# Altium footprint library 610 0xx 218 21.PcbLib: 19 footprints (part 2 of 2)
Each footprint in its own frame and in the unit in brackets; x right, y up, seen from the top. Pads: shape width x height; smd on the part's side, far side on the other; paste and mask are expansions set on the pad; w line width, h text height; cw(c..) or ccw(c..) is an arc to the next point about the centre after c.
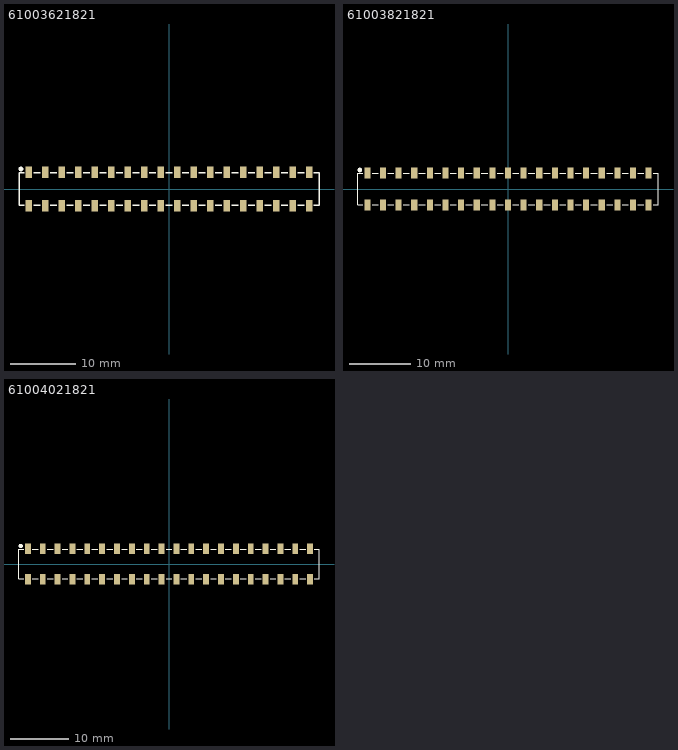
[diagram p1: the footprints below, top view; thin cyan lines are the x and y axes]

## 61003621821 [mm] "36 pins, dual row, straight, gold plating"
height 7.45
pads (36):
  rect 1x1.8 smd: 1(-21.59,2.6) 2(-19.05,2.6) 3(-16.51,2.6) 4(-13.97,2.6) 5(-11.43,2.6) 6(-8.89,2.6) 7(-6.35,2.6) 8(-3.81,2.6) 9(-1.27,2.6) 10(1.27,2.6) 11(3.81,2.6) 12(6.35,2.6) 13(8.89,2.6) 14(11.43,2.6) 15(13.97,2.6) 16(16.51,2.6) 17(19.05,2.6) 18(21.59,2.6) 19(-21.59,-2.6) 20(-19.05,-2.6) 21(-16.51,-2.6) 22(-13.97,-2.6) 23(-11.43,-2.6) 24(-8.89,-2.6) 25(-6.35,-2.6) 26(-3.81,-2.6) 27(-1.27,-2.6) 28(1.27,-2.6) 29(3.81,-2.6) 30(6.35,-2.6) 31(8.89,-2.6) 32(11.43,-2.6) 33(13.97,-2.6) 34(16.51,-2.6) 35(19.05,-2.6) 36(21.59,-2.6)
Top Overlay:
  circle w0.5: c-22.82,3.09 r0.122
  lines w0.2: -22.32,-2.54 -23.11,-2.54 -23.11,2.54 -22.32,2.54 ; -20.82,-2.54 -19.82,-2.54 ; -20.82,2.54 -19.82,2.54 ; -18.28,-2.54 -17.28,-2.54 ; -18.28,2.54 -17.28,2.54 ; -15.74,-2.54 -14.74,-2.54 ; -15.74,2.54 -14.74,2.54 ; -13.2,-2.54 -12.2,-2.54 ; -13.2,2.54 -12.2,2.54 ; -10.66,-2.54 -9.66,-2.54 ; -10.66,2.54 -9.66,2.54 ; -8.12,-2.54 -7.12,-2.54 ; -8.12,2.54 -7.12,2.54 ; -5.58,-2.54 -4.58,-2.54 ; -5.58,2.54 -4.58,2.54 ; -3.04,-2.54 -2.04,-2.54 ; -3.04,2.54 -2.04,2.54 ; -0.5,-2.54 0.5,-2.54 ; -0.5,2.54 0.5,2.54 ; 2.04,-2.54 3.04,-2.54 ; 2.04,2.54 3.04,2.54 ; 4.58,-2.54 5.58,-2.54 ; 4.58,2.54 5.58,2.54 ; 7.12,-2.54 8.12,-2.54 ; 7.12,2.54 8.12,2.54 ; 9.66,-2.54 10.66,-2.54 ; 9.66,2.54 10.66,2.54 ; 12.2,-2.54 13.2,-2.54 ; 12.2,2.54 13.2,2.54 ; 14.74,-2.54 15.74,-2.54 ; 14.74,2.54 15.74,2.54 ; 17.28,-2.54 18.28,-2.54 ; 17.28,2.54 18.28,2.54 ; 19.82,-2.54 20.82,-2.54 ; 19.82,2.54 20.82,2.54 ; 22.32,-2.54 23.11,-2.54 23.11,2.54 22.32,2.54
3D body "61003621821.stp": height 7.42, standoff -0.02, extent -23.11,-3.35 23.11,3.35

## 61003821821 [mm] "38 pins, dual row, straight, gold plating"
height 7.45
pads (38):
  rect 1x1.8 smd: 1(-22.86,2.6) 2(-20.32,2.6) 3(-17.78,2.6) 4(-15.24,2.6) 5(-12.7,2.6) 6(-10.16,2.6) 7(-7.62,2.6) 8(-5.08,2.6) 9(-2.54,2.6) 10(0,2.6) 11(2.54,2.6) 12(5.08,2.6) 13(7.62,2.6) 14(10.16,2.6) 15(12.7,2.6) 16(15.24,2.6) 17(17.78,2.6) 18(20.32,2.6) 19(22.86,2.6) 20(-22.86,-2.6) 21(-20.32,-2.6) 22(-17.78,-2.6) 23(-15.24,-2.6) 24(-12.7,-2.6) 25(-10.16,-2.6) 26(-7.62,-2.6) 27(-5.08,-2.6) 28(-2.54,-2.6) 29(0,-2.6) 30(2.54,-2.6) 31(5.08,-2.6) 32(7.62,-2.6) 33(10.16,-2.6) 34(12.7,-2.6) 35(15.24,-2.6) 36(17.78,-2.6) 37(20.32,-2.6) 38(22.86,-2.6)
Top Overlay:
  circle w0.5: c-24.09,3.09 r0.122
  lines w0.2: -23.59,-2.54 -24.38,-2.54 -24.38,2.54 -23.59,2.54 ; -22.09,-2.54 -21.09,-2.54 ; -22.09,2.54 -21.09,2.54 ; -19.55,-2.54 -18.55,-2.54 ; -19.55,2.54 -18.55,2.54 ; -17.01,-2.54 -16.01,-2.54 ; -17.01,2.54 -16.01,2.54 ; -14.47,-2.54 -13.47,-2.54 ; -14.47,2.54 -13.47,2.54 ; -11.93,-2.54 -10.93,-2.54 ; -11.93,2.54 -10.93,2.54 ; -9.39,-2.54 -8.39,-2.54 ; -9.39,2.54 -8.39,2.54 ; -6.85,-2.54 -5.85,-2.54 ; -6.85,2.54 -5.85,2.54 ; -4.31,-2.54 -3.31,-2.54 ; -4.31,2.54 -3.31,2.54 ; -1.77,-2.54 -0.77,-2.54 ; -1.77,2.54 -0.77,2.54 ; 0.77,-2.54 1.77,-2.54 ; 0.77,2.54 1.77,2.54 ; 3.31,-2.54 4.31,-2.54 ; 3.31,2.54 4.31,2.54 ; 5.85,-2.54 6.85,-2.54 ; 5.85,2.54 6.85,2.54 ; 8.39,-2.54 9.39,-2.54 ; 8.39,2.54 9.39,2.54 ; 10.93,-2.54 11.93,-2.54 ; 10.93,2.54 11.93,2.54 ; 13.47,-2.54 14.47,-2.54 ; 13.47,2.54 14.47,2.54 ; 16.01,-2.54 17.01,-2.54 ; 16.01,2.54 17.01,2.54 ; 18.55,-2.54 19.55,-2.54 ; 18.55,2.54 19.55,2.54 ; 21.09,-2.54 22.09,-2.54 ; 21.09,2.54 22.09,2.54 ; 23.59,-2.54 24.38,-2.54 24.38,2.54 23.59,2.54
3D body "61003821821.stp": height 7.42, standoff -0.02, extent -24.38,-3.35 24.38,3.35

## 61004021821 [mm] "40 pins, dual row, straight, gold plating"
height 7.45
pads (40):
  rect 1x1.8 smd: 1(-24.13,2.6) 2(-21.59,2.6) 3(-19.05,2.6) 4(-16.51,2.6) 5(-13.97,2.6) 6(-11.43,2.6) 7(-8.89,2.6) 8(-6.35,2.6) 9(-3.81,2.6) 10(-1.27,2.6) 11(1.27,2.6) 12(3.81,2.6) 13(6.35,2.6) 14(8.89,2.6) 15(11.43,2.6) 16(13.97,2.6) 17(16.51,2.6) 18(19.05,2.6) 19(21.59,2.6) 20(24.13,2.6) 21(-24.13,-2.6) 22(-21.59,-2.6) 23(-19.05,-2.6) 24(-16.51,-2.6) 25(-13.97,-2.6) 26(-11.43,-2.6) 27(-8.89,-2.6) 28(-6.35,-2.6) 29(-3.81,-2.6) 30(-1.27,-2.6) 31(1.27,-2.6) 32(3.81,-2.6) 33(6.35,-2.6) 34(8.89,-2.6) 35(11.43,-2.6) 36(13.97,-2.6) 37(16.51,-2.6) 38(19.05,-2.6) 39(21.59,-2.6) 40(24.13,-2.6)
Top Overlay:
  circle w0.5: c-25.36,3.09 r0.122
  lines w0.2: -24.86,-2.54 -25.65,-2.54 -25.65,2.54 -24.86,2.54 ; -23.36,-2.54 -22.36,-2.54 ; -23.36,2.54 -22.36,2.54 ; -20.82,-2.54 -19.82,-2.54 ; -20.82,2.54 -19.82,2.54 ; -18.28,-2.54 -17.28,-2.54 ; -18.28,2.54 -17.28,2.54 ; -15.74,-2.54 -14.74,-2.54 ; -15.74,2.54 -14.74,2.54 ; -13.2,-2.54 -12.2,-2.54 ; -13.2,2.54 -12.2,2.54 ; -10.66,-2.54 -9.66,-2.54 ; -10.66,2.54 -9.66,2.54 ; -8.12,-2.54 -7.12,-2.54 ; -8.12,2.54 -7.12,2.54 ; -5.58,-2.54 -4.58,-2.54 ; -5.58,2.54 -4.58,2.54 ; -3.04,-2.54 -2.04,-2.54 ; -3.04,2.54 -2.04,2.54 ; -0.5,-2.54 0.5,-2.54 ; -0.5,2.54 0.5,2.54 ; 2.04,-2.54 3.04,-2.54 ; 2.04,2.54 3.04,2.54 ; 4.58,-2.54 5.58,-2.54 ; 4.58,2.54 5.58,2.54 ; 7.12,-2.54 8.12,-2.54 ; 7.12,2.54 8.12,2.54 ; 9.66,-2.54 10.66,-2.54 ; 9.66,2.54 10.66,2.54 ; 12.2,-2.54 13.2,-2.54 ; 12.2,2.54 13.2,2.54 ; 14.74,-2.54 15.74,-2.54 ; 14.74,2.54 15.74,2.54 ; 17.28,-2.54 18.28,-2.54 ; 17.28,2.54 18.28,2.54 ; 19.82,-2.54 20.82,-2.54 ; 19.82,2.54 20.82,2.54 ; 22.36,-2.54 23.36,-2.54 ; 22.36,2.54 23.36,2.54 ; 24.86,-2.54 25.65,-2.54 25.65,2.54 24.86,2.54
3D body "61004021821.stp": height 7.42, standoff -0.02, extent -25.65,-3.35 25.65,3.35